# EAGLE library part PIC16F1459-I-SS (library angrypig7-IC-MCU)
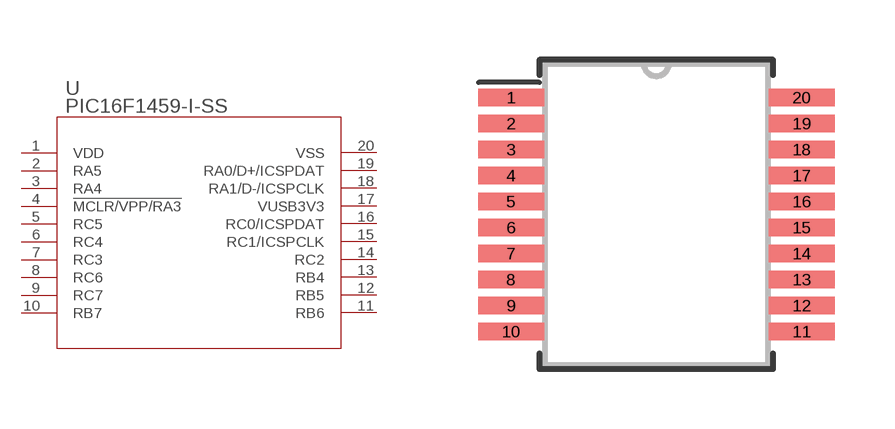
[diagram p3: symbol with the pads of SSOP-20_208MIL; footprint SSOP-20_208MIL]

Designator prefix U

## PIC16F1459-I-SS (MANUFACTURER_PART_NUMBER: PIC16F1459ISS; VENDOR: Microchip)  [SSOP-20_208MIL]
1  VDD  pwr
2  RA5
3  RA4
4  !MCLR/VPP/RA3
5  RC5
6  RC4
7  RC3
8  RC6
9  RC7
10  RB7
11  RB6
12  RB5
13  RB4
14  RC2
15  RC1/ICSPCLK
16  RC0/ICSPDAT
17  VUSB3V3  pwr
18  RA1/D-/ICSPCLK
19  RA0/D+/ICSPDAT
20  VSS  pwr

## Footprint SSOP-20_208MIL (pad centres in mm)
smd 1.651 x 0.432: 1 -3.632,2.925; 2 -3.632,2.275; 3 -3.632,1.625; 4 -3.632,0.975; 5 -3.632,0.325; 6 -3.632,-0.325; 7 -3.632,-0.975; 8 -3.632,-1.625; 9 -3.632,-2.275; 10 -3.632,-2.925; 11 3.632,-2.925; 12 3.632,-2.275; 13 3.632,-1.625; 14 3.632,-0.975; 15 3.632,-0.325; 16 3.632,0.325; 17 3.632,0.975; 18 3.632,1.625; 19 3.632,2.275; 20 3.632,2.925